# Altium footprint library CAPC_0805_M2012.PcbLib: 1 footprints
Each footprint in its own frame and in the unit in brackets; x right, y up, seen from the top. Pads: shape width x height; smd on the part's side, far side on the other; paste and mask are expansions set on the pad; w line width, h text height; cw(c..) or ccw(c..) is an arc to the next point about the centre after c.
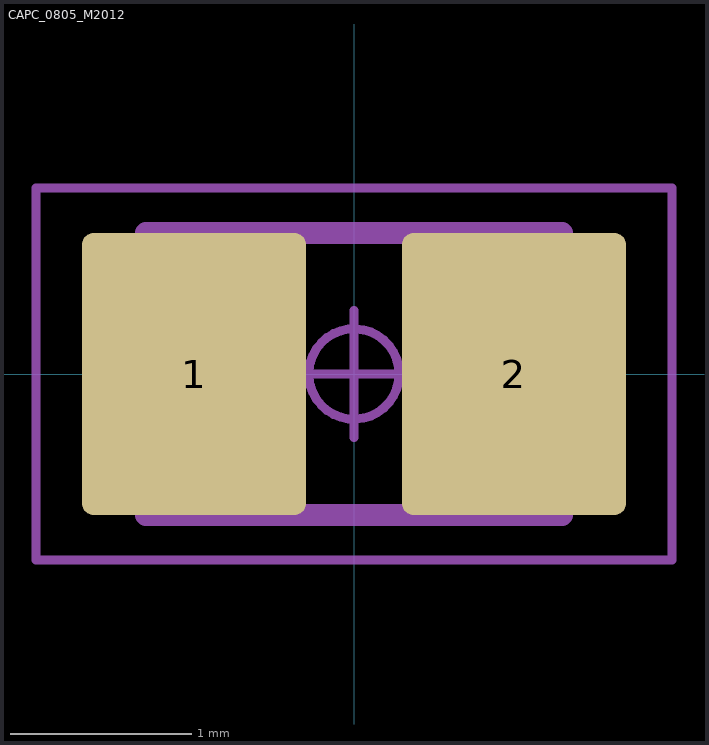
[diagram p0: the footprint, top view; thin cyan lines are the x and y axes]

## CAPC_0805_M2012 [mm] "Capacitor, Chip; 2.00 mm L X 1.25 mm W X 1.55 mm H body"
pads (2):
  rrect10% 1.24x1.56 smd: 1(-0.885,0) 2(0.885,0)
Mechanical 11:
  lines w0.12: -1.15,-0.78 1.15,-0.78 1.15,0.78 -1.15,0.78 -1.15,-0.78
  text ".Designator" at -1.821,-0.223 h1
Mechanical 15:
  circle w0.05: c0,0 r0.25
  lines w0.05: -0.35,0 0.35,0 ; 0,-0.35 0,0.35 ; -1.76,-1.03 1.76,-1.03 1.76,1.03 -1.76,1.03 -1.76,-1.03
3D body "CAPC_0805_M2012.STEP": height 1.55, standoff 0, extent -1.15,-0.775 1.15,0.775